# EAGLE library part XC6SLX25-FT256 (library dan-xilinx)
Xilinx Spartan-6 LX25 in FT256 package
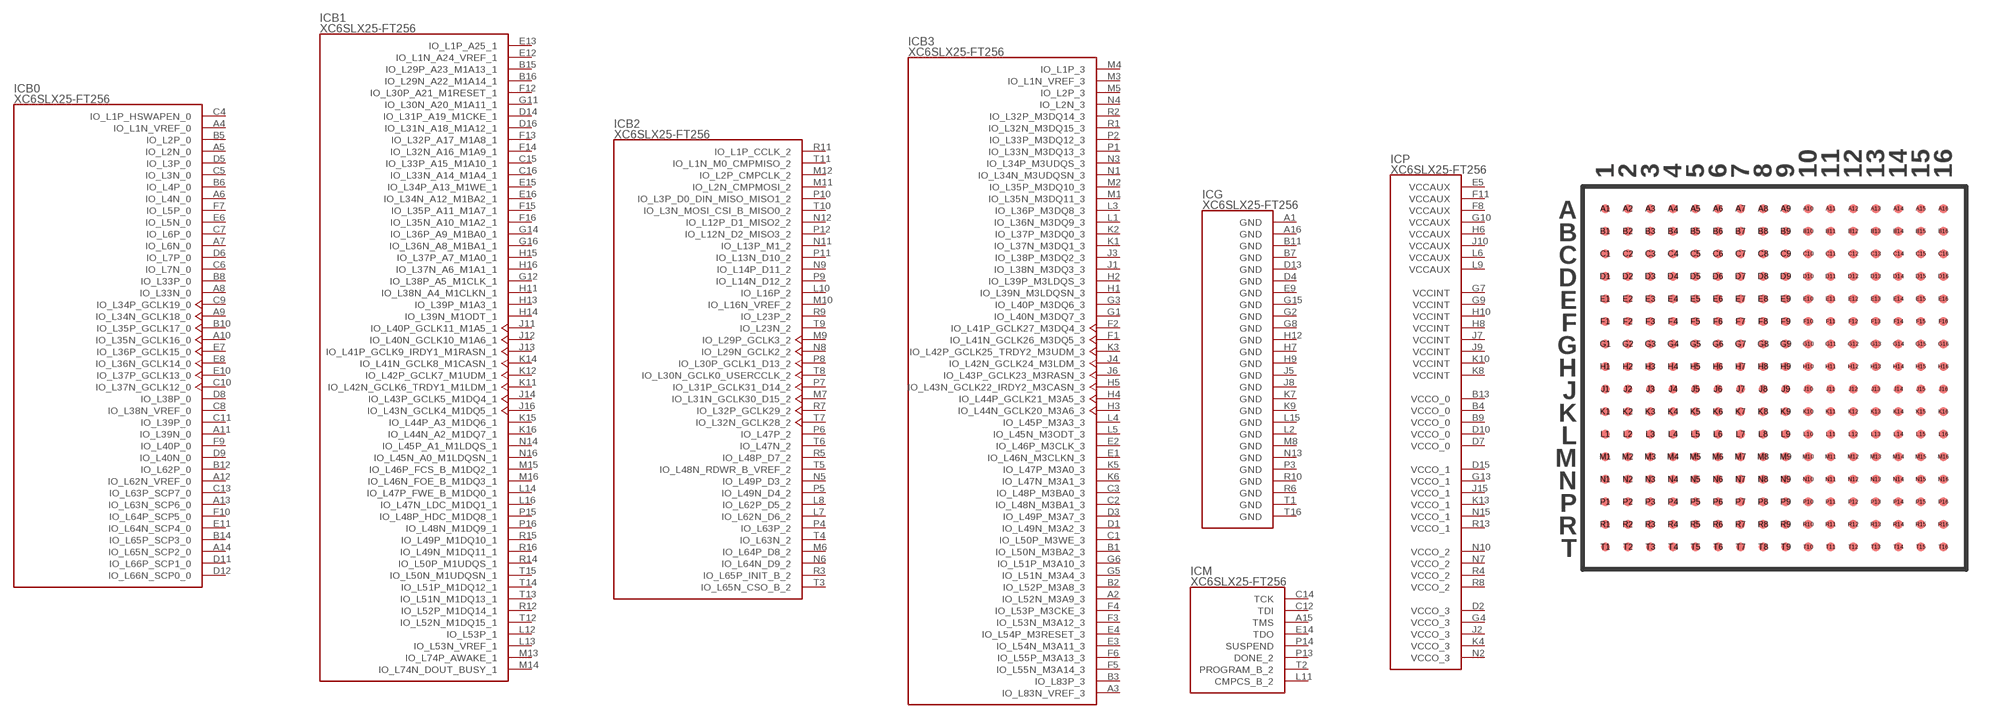
[diagram p4: symbol with the pads of FT256; footprint FT256]

Designator prefix IC; gates B0=XC6SLX25-BANK0 B1=XC6SLX25-BANK1 B2=XC6SLX25-BANK2 B3=XC6SLX25-BANK3 G=XC6SLX25-GND M=XC6SLX25-MISC P=XC6SLX25-PWR

## XC6SLX25-FT256  [FT256]
A1  G:GND  pas
A2  B3:IO_L52N_M3A9_3
A3  B3:IO_L83N_VREF_3
A4  B0:IO_L1N_VREF_0
A5  B0:IO_L2N_0
A6  B0:IO_L4N_0
A7  B0:IO_L6N_0
A8  B0:IO_L33N_0
A9  B0:IO_L34N_GCLK18_0
A10  B0:IO_L35N_GCLK16_0
A11  B0:IO_L39N_0
A12  B0:IO_L62N_VREF_0
A13  B0:IO_L63N_SCP6_0
A14  B0:IO_L65N_SCP2_0
A15  M:TMS  in
A16  G:GND  pas
B1  B3:IO_L50N_M3BA2_3
B2  B3:IO_L52P_M3A8_3
B3  B3:IO_L83P_3
B4  P:VCCO_0  pas
B5  B0:IO_L2P_0
B6  B0:IO_L4P_0
B7  G:GND  pas
B8  B0:IO_L33P_0
B9  P:VCCO_0  pas
B10  B0:IO_L35P_GCLK17_0
B11  G:GND  pas
B12  B0:IO_L62P_0
B13  P:VCCO_0  pas
B14  B0:IO_L65P_SCP3_0
B15  B1:IO_L29P_A23_M1A13_1
B16  B1:IO_L29N_A22_M1A14_1
C1  B3:IO_L50P_M3WE_3
C2  B3:IO_L48N_M3BA1_3
C3  B3:IO_L48P_M3BA0_3
C4  B0:IO_L1P_HSWAPEN_0
C5  B0:IO_L3N_0
C6  B0:IO_L7N_0
C7  B0:IO_L6P_0
C8  B0:IO_L38N_VREF_0
C9  B0:IO_L34P_GCLK19_0
C10  B0:IO_L37N_GCLK12_0
C11  B0:IO_L39P_0
C12  M:TDI  in
C13  B0:IO_L63P_SCP7_0
C14  M:TCK  in
C15  B1:IO_L33P_A15_M1A10_1
C16  B1:IO_L33N_A14_M1A4_1
D1  B3:IO_L49N_M3A2_3
D2  P:VCCO_3  pas
D3  B3:IO_L49P_M3A7_3
D4  G:GND  pas
D5  B0:IO_L3P_0
D6  B0:IO_L7P_0
D7  P:VCCO_0  pas
D8  B0:IO_L38P_0
D9  B0:IO_L40N_0
D10  P:VCCO_0  pas
D11  B0:IO_L66P_SCP1_0
D12  B0:IO_L66N_SCP0_0
D13  G:GND  pas
D14  B1:IO_L31P_A19_M1CKE_1
D15  P:VCCO_1  pas
D16  B1:IO_L31N_A18_M1A12_1
E1  B3:IO_L46N_M3CLKN_3
E2  B3:IO_L46P_M3CLK_3
E3  B3:IO_L54N_M3A11_3
E4  B3:IO_L54P_M3RESET_3
E5  P:VCCAUX  pas
E6  B0:IO_L5N_0
E7  B0:IO_L36P_GCLK15_0
E8  B0:IO_L36N_GCLK14_0
E9  G:GND  pas
E10  B0:IO_L37P_GCLK13_0
E11  B0:IO_L64N_SCP4_0
E12  B1:IO_L1N_A24_VREF_1
E13  B1:IO_L1P_A25_1
E14  M:TDO  out
E15  B1:IO_L34P_A13_M1WE_1
E16  B1:IO_L34N_A12_M1BA2_1
F1  B3:IO_L41N_GCLK26_M3DQ5_3
F2  B3:IO_L41P_GCLK27_M3DQ4_3
F3  B3:IO_L53N_M3A12_3
F4  B3:IO_L53P_M3CKE_3
F5  B3:IO_L55N_M3A14_3
F6  B3:IO_L55P_M3A13_3
F7  B0:IO_L5P_0
F8  P:VCCAUX  pas
F9  B0:IO_L40P_0
F10  B0:IO_L64P_SCP5_0
F11  P:VCCAUX  pas
F12  B1:IO_L30P_A21_M1RESET_1
F13  B1:IO_L32P_A17_M1A8_1
F14  B1:IO_L32N_A16_M1A9_1
F15  B1:IO_L35P_A11_M1A7_1
F16  B1:IO_L35N_A10_M1A2_1
G1  B3:IO_L40N_M3DQ7_3
G2  G:GND  pas
G3  B3:IO_L40P_M3DQ6_3
G4  P:VCCO_3  pas
G5  B3:IO_L51N_M3A4_3
G6  B3:IO_L51P_M3A10_3
G7  P:VCCINT  pas
G8  G:GND  pas
G9  P:VCCINT  pas
G10  P:VCCAUX  pas
G11  B1:IO_L30N_A20_M1A11_1
G12  B1:IO_L38P_A5_M1CLK_1
G13  P:VCCO_1  pas
G14  B1:IO_L36P_A9_M1BA0_1
G15  G:GND  pas
G16  B1:IO_L36N_A8_M1BA1_1
H1  B3:IO_L39N_M3LDQSN_3
H2  B3:IO_L39P_M3LDQS_3
H3  B3:IO_L44N_GCLK20_M3A6_3
H4  B3:IO_L44P_GCLK21_M3A5_3
H5  B3:IO_L43N_GCLK22_IRDY2_M3CASN_3
H6  P:VCCAUX  pas
H7  G:GND  pas
H8  P:VCCINT  pas
H9  G:GND  pas
H10  P:VCCINT  pas
H11  B1:IO_L38N_A4_M1CLKN_1
H12  G:GND  pas
H13  B1:IO_L39P_M1A3_1
H14  B1:IO_L39N_M1ODT_1
H15  B1:IO_L37P_A7_M1A0_1
H16  B1:IO_L37N_A6_M1A1_1
J1  B3:IO_L38N_M3DQ3_3
J2  P:VCCO_3  pas
J3  B3:IO_L38P_M3DQ2_3
J4  B3:IO_L42N_GCLK24_M3LDM_3
J5  G:GND  pas
J6  B3:IO_L43P_GCLK23_M3RASN_3
J7  P:VCCINT  pas
J8  G:GND  pas
J9  P:VCCINT  pas
J10  P:VCCAUX  pas
J11  B1:IO_L40P_GCLK11_M1A5_1
J12  B1:IO_L40N_GCLK10_M1A6_1
J13  B1:IO_L41P_GCLK9_IRDY1_M1RASN_1
J14  B1:IO_L43P_GCLK5_M1DQ4_1
J15  P:VCCO_1  pas
J16  B1:IO_L43N_GCLK4_M1DQ5_1
K1  B3:IO_L37N_M3DQ1_3
K2  B3:IO_L37P_M3DQ0_3
K3  B3:IO_L42P_GCLK25_TRDY2_M3UDM_3
K4  P:VCCO_3  pas
K5  B3:IO_L47P_M3A0_3
K6  B3:IO_L47N_M3A1_3
K7  G:GND  pas
K8  P:VCCINT  pas
K9  G:GND  pas
K10  P:VCCINT  pas
K11  B1:IO_L42N_GCLK6_TRDY1_M1LDM_1
K12  B1:IO_L42P_GCLK7_M1UDM_1
K13  P:VCCO_1  pas
K14  B1:IO_L41N_GCLK8_M1CASN_1
K15  B1:IO_L44P_A3_M1DQ6_1
K16  B1:IO_L44N_A2_M1DQ7_1
L1  B3:IO_L36N_M3DQ9_3
L2  G:GND  pas
L3  B3:IO_L36P_M3DQ8_3
L4  B3:IO_L45P_M3A3_3
L5  B3:IO_L45N_M3ODT_3
L6  P:VCCAUX  pas
L7  B2:IO_L62N_D6_2
L8  B2:IO_L62P_D5_2
L9  P:VCCAUX  pas
L10  B2:IO_L16P_2
L11  M:CMPCS_B_2  nc
L12  B1:IO_L53P_1
L13  B1:IO_L53N_VREF_1
L14  B1:IO_L47P_FWE_B_M1DQ0_1
L15  G:GND  pas
L16  B1:IO_L47N_LDC_M1DQ1_1
M1  B3:IO_L35N_M3DQ11_3
M2  B3:IO_L35P_M3DQ10_3
M3  B3:IO_L1N_VREF_3
M4  B3:IO_L1P_3
M5  B3:IO_L2P_3
M6  B2:IO_L64P_D8_2
M7  B2:IO_L31N_GCLK30_D15_2
M8  G:GND  pas
M9  B2:IO_L29P_GCLK3_2
M10  B2:IO_L16N_VREF_2
M11  B2:IO_L2N_CMPMOSI_2
M12  B2:IO_L2P_CMPCLK_2
M13  B1:IO_L74P_AWAKE_1
M14  B1:IO_L74N_DOUT_BUSY_1
M15  B1:IO_L46P_FCS_B_M1DQ2_1
M16  B1:IO_L46N_FOE_B_M1DQ3_1
N1  B3:IO_L34N_M3UDQSN_3
N2  P:VCCO_3  pas
N3  B3:IO_L34P_M3UDQS_3
N4  B3:IO_L2N_3
N5  B2:IO_L49P_D3_2
N6  B2:IO_L64N_D9_2
N7  P:VCCO_2  pas
N8  B2:IO_L29N_GCLK2_2
N9  B2:IO_L14P_D11_2
N10  P:VCCO_2  pas
N11  B2:IO_L13P_M1_2
N12  B2:IO_L12P_D1_MISO2_2
N13  G:GND  pas
N14  B1:IO_L45P_A1_M1LDQS_1
N15  P:VCCO_1  pas
N16  B1:IO_L45N_A0_M1LDQSN_1
P1  B3:IO_L33N_M3DQ13_3
P2  B3:IO_L33P_M3DQ12_3
P3  G:GND  pas
P4  B2:IO_L63P_2
P5  B2:IO_L49N_D4_2
P6  B2:IO_L47P_2
P7  B2:IO_L31P_GCLK31_D14_2
P8  B2:IO_L30P_GCLK1_D13_2
P9  B2:IO_L14N_D12_2
P10  B2:IO_L3P_D0_DIN_MISO_MISO1_2
P11  B2:IO_L13N_D10_2
P12  B2:IO_L12N_D2_MISO3_2
P13  M:DONE_2
P14  M:SUSPEND  in
P15  B1:IO_L48P_HDC_M1DQ8_1
P16  B1:IO_L48N_M1DQ9_1
R1  B3:IO_L32N_M3DQ15_3
R2  B3:IO_L32P_M3DQ14_3
R3  B2:IO_L65P_INIT_B_2
R4  P:VCCO_2  pas
R5  B2:IO_L48P_D7_2
R6  G:GND  pas
R7  B2:IO_L32P_GCLK29_2
R8  P:VCCO_2  pas
R9  B2:IO_L23P_2
R10  G:GND  pas
R11  B2:IO_L1P_CCLK_2
R12  B1:IO_L52P_M1DQ14_1
R13  P:VCCO_1  pas
R14  B1:IO_L50P_M1UDQS_1
R15  B1:IO_L49P_M1DQ10_1
R16  B1:IO_L49N_M1DQ11_1
T1  G:GND  pas
T2  M:PROGRAM_B_2  in
T3  B2:IO_L65N_CSO_B_2
T4  B2:IO_L63N_2
T5  B2:IO_L48N_RDWR_B_VREF_2
T6  B2:IO_L47N_2
T7  B2:IO_L32N_GCLK28_2
T8  B2:IO_L30N_GCLK0_USERCCLK_2
T9  B2:IO_L23N_2
T10  B2:IO_L3N_MOSI_CSI_B_MISO0_2
T11  B2:IO_L1N_M0_CMPMISO_2
T12  B1:IO_L52N_M1DQ15_1
T13  B1:IO_L51N_M1DQ13_1
T14  B1:IO_L51P_M1DQ12_1
T15  B1:IO_L50N_M1UDQSN_1
T16  G:GND  pas

## Footprint FT256 (pad centres in mm)
FT256 From Xilinx's UG393 and UG385 documents
smd 0.4 x 0.4: A1 -7.5,7.5; A2 -6.5,7.5; A3 -5.5,7.5; A4 -4.5,7.5; A5 -3.5,7.5; A6 -2.5,7.5; A7 -1.5,7.5; A8 -0.5,7.5; A9 0.5,7.5; A10 1.5,7.5; A11 2.5,7.5; A12 3.5,7.5; A13 4.5,7.5; A14 5.5,7.5; A15 6.5,7.5; A16 7.5,7.5; B1 -7.5,6.5; B2 -6.5,6.5; B3 -5.5,6.5; B4 -4.5,6.5; B5 -3.5,6.5; B6 -2.5,6.5; B7 -1.5,6.5; B8 -0.5,6.5; B9 0.5,6.5; B10 1.5,6.5; B11 2.5,6.5; B12 3.5,6.5; B13 4.5,6.5; B14 5.5,6.5; B15 6.5,6.5; B16 7.5,6.5; C1 -7.5,5.5; C2 -6.5,5.5; C3 -5.5,5.5; C4 -4.5,5.5; C5 -3.5,5.5; C6 -2.5,5.5; C7 -1.5,5.5; C8 -0.5,5.5; C9 0.5,5.5; C10 1.5,5.5; C11 2.5,5.5; C12 3.5,5.5; C13 4.5,5.5; C14 5.5,5.5; C15 6.5,5.5; C16 7.5,5.5; D1 -7.5,4.5; D2 -6.5,4.5; D3 -5.5,4.5; D4 -4.5,4.5; D5 -3.5,4.5; D6 -2.5,4.5; D7 -1.5,4.5; D8 -0.5,4.5; D9 0.5,4.5; D10 1.5,4.5; D11 2.5,4.5; D12 3.5,4.5; D13 4.5,4.5; D14 5.5,4.5; D15 6.5,4.5; D16 7.5,4.5; E1 -7.5,3.5; E2 -6.5,3.5; E3 -5.5,3.5; E4 -4.5,3.5; E5 -3.5,3.5; E6 -2.5,3.5; E7 -1.5,3.5; E8 -0.5,3.5; E9 0.5,3.5; E10 1.5,3.5; E11 2.5,3.5; E12 3.5,3.5; E13 4.5,3.5; E14 5.5,3.5; E15 6.5,3.5; E16 7.5,3.5; F1 -7.5,2.5; F2 -6.5,2.5; F3 -5.5,2.5; F4 -4.5,2.5; F5 -3.5,2.5; F6 -2.5,2.5; F7 -1.5,2.5; F8 -0.5,2.5; F9 0.5,2.5; F10 1.5,2.5; F11 2.5,2.5; F12 3.5,2.5; F13 4.5,2.5; F14 5.5,2.5; F15 6.5,2.5; F16 7.5,2.5; G1 -7.5,1.5; G2 -6.5,1.5; G3 -5.5,1.5; G4 -4.5,1.5; G5 -3.5,1.5; G6 -2.5,1.5; G7 -1.5,1.5; G8 -0.5,1.5; G9 0.5,1.5; G10 1.5,1.5; G11 2.5,1.5; G12 3.5,1.5; G13 4.5,1.5; G14 5.5,1.5; G15 6.5,1.5; G16 7.5,1.5; H1 -7.5,0.5; H2 -6.5,0.5; H3 -5.5,0.5; H4 -4.5,0.5; H5 -3.5,0.5; H6 -2.5,0.5; H7 -1.5,0.5; H8 -0.5,0.5; H9 0.5,0.5; H10 1.5,0.5; H11 2.5,0.5; H12 3.5,0.5; H13 4.5,0.5; H14 5.5,0.5; H15 6.5,0.5; H16 7.5,0.5; J1 -7.5,-0.5; J2 -6.5,-0.5; J3 -5.5,-0.5; J4 -4.5,-0.5; J5 -3.5,-0.5; J6 -2.5,-0.5; J7 -1.5,-0.5; J8 -0.5,-0.5; J9 0.5,-0.5; J10 1.5,-0.5; J11 2.5,-0.5; J12 3.5,-0.5; J13 4.5,-0.5; J14 5.5,-0.5; J15 6.5,-0.5; J16 7.5,-0.5; K1 -7.5,-1.5; K2 -6.5,-1.5; K3 -5.5,-1.5; K4 -4.5,-1.5; K5 -3.5,-1.5; K6 -2.5,-1.5; K7 -1.5,-1.5; K8 -0.5,-1.5; K9 0.5,-1.5; K10 1.5,-1.5; K11 2.5,-1.5; K12 3.5,-1.5; K13 4.5,-1.5; K14 5.5,-1.5; K15 6.5,-1.5; K16 7.5,-1.5; L1 -7.5,-2.5; L2 -6.5,-2.5; L3 -5.5,-2.5; L4 -4.5,-2.5; L5 -3.5,-2.5; L6 -2.5,-2.5; L7 -1.5,-2.5; L8 -0.5,-2.5; L9 0.5,-2.5; L10 1.5,-2.5; L11 2.5,-2.5; L12 3.5,-2.5; L13 4.5,-2.5; L14 5.5,-2.5; L15 6.5,-2.5; L16 7.5,-2.5; M1 -7.5,-3.5; M2 -6.5,-3.5; M3 -5.5,-3.5; M4 -4.5,-3.5; M5 -3.5,-3.5; M6 -2.5,-3.5; M7 -1.5,-3.5; M8 -0.5,-3.5; M9 0.5,-3.5; M10 1.5,-3.5; M11 2.5,-3.5; M12 3.5,-3.5; M13 4.5,-3.5; M14 5.5,-3.5; M15 6.5,-3.5; M16 7.5,-3.5; N1 -7.5,-4.5; N2 -6.5,-4.5; N3 -5.5,-4.5; N4 -4.5,-4.5; N5 -3.5,-4.5; N6 -2.5,-4.5; N7 -1.5,-4.5; N8 -0.5,-4.5; N9 0.5,-4.5; N10 1.5,-4.5; N11 2.5,-4.5; N12 3.5,-4.5; N13 4.5,-4.5; N14 5.5,-4.5; N15 6.5,-4.5; N16 7.5,-4.5; P1 -7.5,-5.5; P2 -6.5,-5.5; P3 -5.5,-5.5; P4 -4.5,-5.5; P5 -3.5,-5.5; P6 -2.5,-5.5; P7 -1.5,-5.5; P8 -0.5,-5.5; P9 0.5,-5.5; P10 1.5,-5.5; P11 2.5,-5.5; P12 3.5,-5.5; P13 4.5,-5.5; P14 5.5,-5.5; P15 6.5,-5.5; P16 7.5,-5.5; R1 -7.5,-6.5; R2 -6.5,-6.5; R3 -5.5,-6.5; R4 -4.5,-6.5; R5 -3.5,-6.5; R6 -2.5,-6.5; R7 -1.5,-6.5; R8 -0.5,-6.5; R9 0.5,-6.5; R10 1.5,-6.5; R11 2.5,-6.5; R12 3.5,-6.5; R13 4.5,-6.5; R14 5.5,-6.5; R15 6.5,-6.5; R16 7.5,-6.5; T1 -7.5,-7.5; T2 -6.5,-7.5; T3 -5.5,-7.5; T4 -4.5,-7.5; T5 -3.5,-7.5; T6 -2.5,-7.5; T7 -1.5,-7.5; T8 -0.5,-7.5; T9 0.5,-7.5; T10 1.5,-7.5; T11 2.5,-7.5; T12 3.5,-7.5; T13 4.5,-7.5; T14 5.5,-7.5; T15 6.5,-7.5; T16 7.5,-7.5